# Altium schematic symbol library 150080GS75000.SchLib: 1 symbol
Pins are listed as number, name and electrical type; pins without a type are passive.

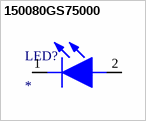
[diagram p0: symbol 150080GS75000]

## 150080GS75000
designator LED?
Green 520nm LED Indication - Discrete 3.2V 0805 (2012 Metric); MF: Wurth Electronics; MP: 150080GS75000; SnapEDA_Link: https://www.snapeda.com/parts/150080GS75000/Wurth+Electronics+Inc./view-part/?ref=snap; Package: 0805 WÃ¼rth Elektronik; Value: *; Check_prices: https://www.snapeda.com/parts/150080GS75000/Wurth+Electronics+Inc./view-part/?ref=eda
footprint LEDM2012X80N
pins: 1 K (io), 2 A (io)